# Altium integrated library NSC Logic Translator.IntLib: 51 symbols (part 2 of 2)
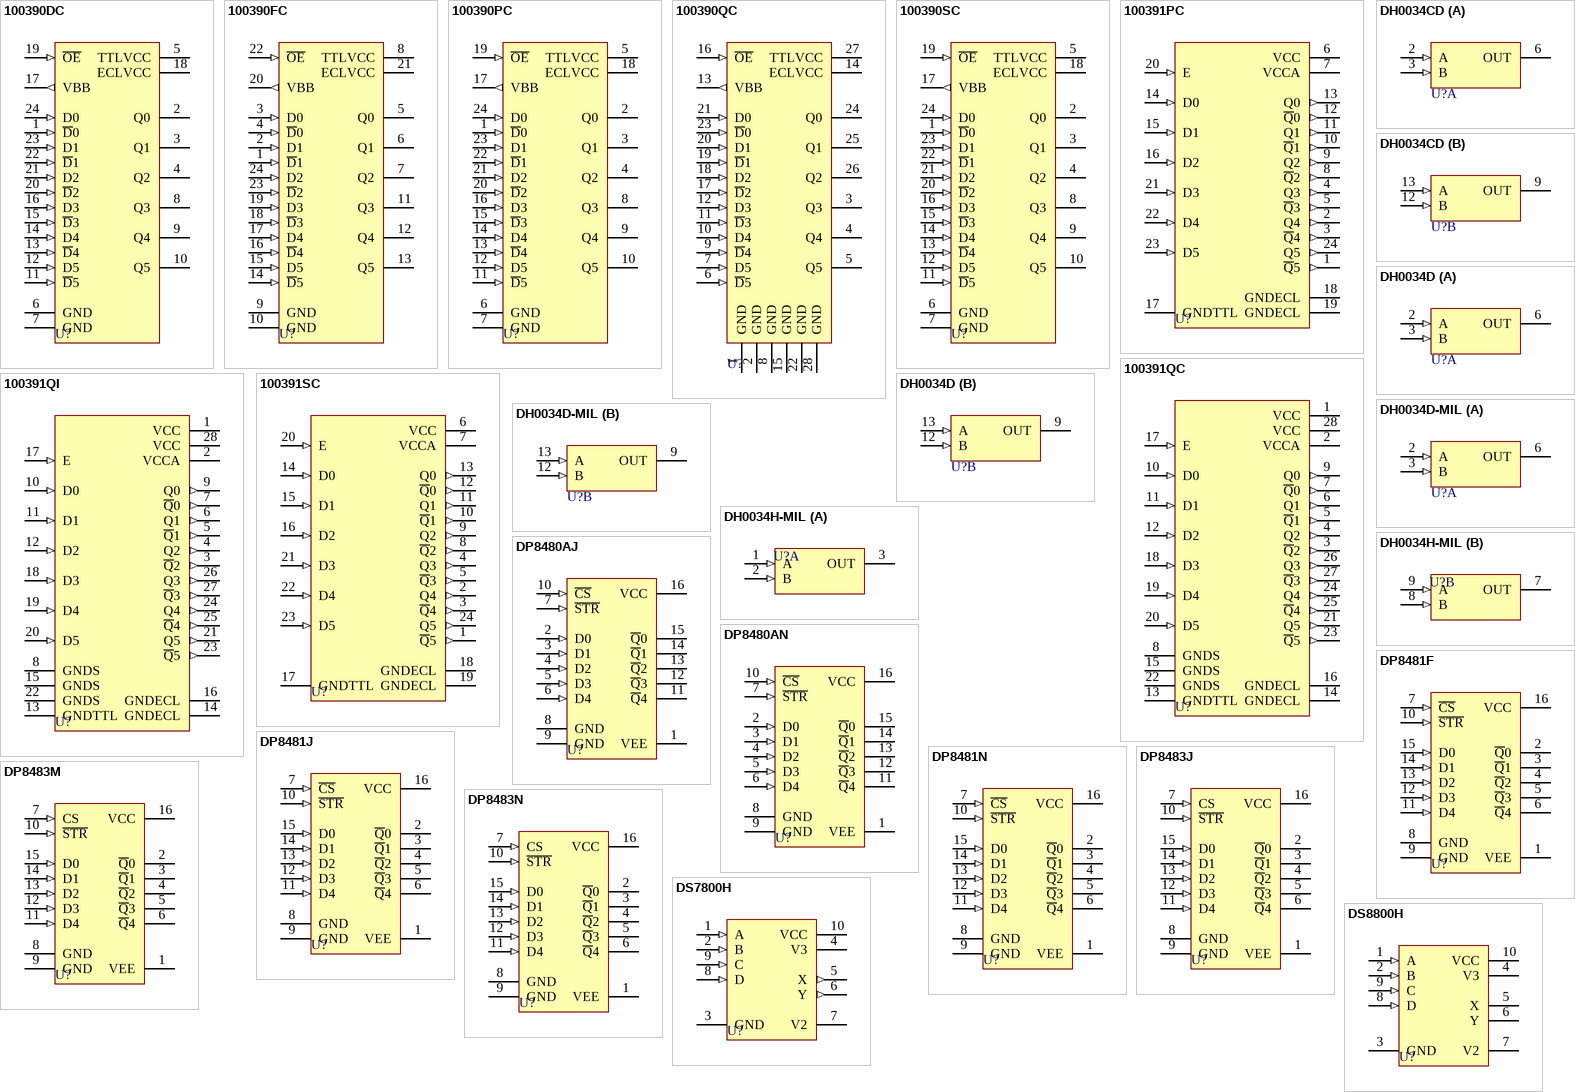
[diagram p2: symbols 100390DC to DS8800H]

## DP8483J
designator U?
TTL to 100k ECL Level Translator with Latch; Published: 15-Apr-2002; LatestRevisionDate: 06-Jun-2005; LatestRevisionNote: Stylized 3D Model Added.; DatasheetVersion: 1990; PackageVersion: 2000; PackageReference: J16A; Publisher: Altium Limited; PackageDescription: DIP; 16 Leads; Row Spacing 7.62 mm; Pitch 2.54 mm; ComponentLink1Description: Manufacturer Link; ComponentLink1URL: http://www.national.com/; ComponentLink2Description: Datasheet; ComponentLink2URL: http://www.national.com/ds.cgi/DP/DP8483.pdf; ComponentLink3Description: URL Link1; ComponentLink3URL: http://www.national.com/pf/DP/DP8483.html
footprint J16A (DIP; 16 Leads; Row Spacing 7.62 mm; Pitch 2.54 mm)
3D model J16A (DIP; 16 Leads; Row Spacing 7.62 mm; Pitch 2.54 mm)
pins: 1 VEE (power), 2 ~{Q}0 (oe), 3 ~{Q}1 (oe), 4 ~{Q}2 (oe), 5 ~{Q}3 (oe), 6 ~{Q}4 (oe), 7 CS (in), 8 GND (power), 9 GND (power), 10 ~{STR} (in), 11 D4 (in), 12 D3 (in), 13 D2 (in), 14 D1 (in), 15 D0 (in), 16 VCC (power)

## DP8483M
designator U?
TTL to 100k ECL Level Translator with Latch; Published: 15-Apr-2002; LatestRevisionDate: 13-Apr-2006; LatestRevisionNote: IPC-7351 Footprint Added.; DatasheetVersion: 1990; PackageVersion: 2000; PackageReference: M16B; Publisher: Altium Limited; PackageDescription: 16-Pin Small Outline Integrated Circuit 1.27 mm Pitch; Code_JEDEC: MS-013-AA; Code_IPC: SOIC127P1030-16; ComponentLink1Description: Manufacturer Link; ComponentLink1URL: http://www.national.com/; ComponentLink2Description: Datasheet; ComponentLink2URL: http://www.national.com/ds.cgi/DP/DP8483.pdf; ComponentLink3Description: URL Link1; ComponentLink3URL: http://www.national.com/pf/DP/DP8483.html
footprint M16B_N (SOIC, 16-Leads, Body 10.3x7.5mm, Pitch 1.27mm, IPC Medium Density)
footprint M16B_L (SOIC, 16-Leads, Body 10.3x7.5mm, Pitch 1.27mm, IPC High Density)
footprint M16B_M (SOIC, 16-Leads, Body 10.3x7.5mm, Pitch 1.27mm, IPC Low Density)
3D model M16B (16-Pin Small Outline Integrated Circuit 1.27 mm Pitch)
pins: 1 VEE (power), 2 ~{Q}0 (oe), 3 ~{Q}1 (oe), 4 ~{Q}2 (oe), 5 ~{Q}3 (oe), 6 ~{Q}4 (oe), 7 CS (in), 8 GND (power), 9 GND (power), 10 ~{STR} (in), 11 D4 (in), 12 D3 (in), 13 D2 (in), 14 D1 (in), 15 D0 (in), 16 VCC (power)

## DP8483N
designator U?
TTL to 100k ECL Level Translator with Latch; Published: 15-Apr-2002; LatestRevisionDate: 06-Jun-2005; LatestRevisionNote: Stylized 3D Model Added.; DatasheetVersion: 1990; PackageVersion: 2000; PackageReference: N16A; Publisher: Altium Limited; PackageDescription: DIP; 16 Leads; Row Spacing 7.62 mm; Pitch 2.54 mm; ComponentLink1Description: Manufacturer Link; ComponentLink1URL: http://www.national.com/; ComponentLink2Description: Datasheet; ComponentLink2URL: http://www.national.com/ds.cgi/DP/DP8483.pdf; ComponentLink3Description: URL Link1; ComponentLink3URL: http://www.national.com/pf/DP/DP8483.html
footprint N16A (DIP; 16 Leads; Row Spacing 7.62 mm; Pitch 2.54 mm)
3D model N16A (DIP; 16 Leads; Row Spacing 7.62 mm; Pitch 2.54 mm)
pins: 1 VEE (power), 2 ~{Q}0 (oe), 3 ~{Q}1 (oe), 4 ~{Q}2 (oe), 5 ~{Q}3 (oe), 6 ~{Q}4 (oe), 7 CS (in), 8 GND (power), 9 GND (power), 10 ~{STR} (in), 11 D4 (in), 12 D3 (in), 13 D2 (in), 14 D1 (in), 15 D0 (in), 16 VCC (power)

## DS7800H
designator U?
Dual Voltage Level Translator; Published: 15-Apr-2002; DatasheetVersion: 1990; PackageVersion: 2000; PackageReference: H10C; Publisher: Altium Limited; PackageDescription: Can; 10 Leads; Pin Circle Dia. 5.84 mm; Lead Dia. 0.48 mm (max); ComponentLink1Description: Manufacturer Link; ComponentLink1URL: http://www.national.com/
footprint H10C (Can; 10 Leads; Pin Circle Dia. 5.84 mm; Lead Dia. 0.48 mm (max))
pins: 1 A (in), 2 B (in), 3 GND (power), 4 V3 (power), 5 X (out), 6 Y (out), 7 V2 (power), 8 D (in), 9 C (in), 10 VCC (power)

## DS8800H
designator U?
Dual Voltage Level Translator; Published: 15-Apr-2002; DatasheetVersion: 1990; PackageVersion: 2000; PackageReference: H10C; Publisher: Altium Limited; PackageDescription: Can; 10 Leads; Pin Circle Dia. 5.84 mm; Lead Dia. 0.48 mm (max); ComponentLink1Description: Manufacturer Link; ComponentLink1URL: http://www.national.com/
footprint H10C (Can; 10 Leads; Pin Circle Dia. 5.84 mm; Lead Dia. 0.48 mm (max))
pins: 1 A (in), 2 B (in), 3 GND (power), 4 V3 (power), 5 X (oc), 6 Y (oc), 7 V2 (power), 8 D (in), 9 C (in), 10 VCC (power)